# Altium footprint library 单片机.PCBLIB: 4 footprints
Each footprint in its own frame and in the unit in brackets; x right, y up, seen from the top. Pads: shape width x height; smd on the part's side, far side on the other; paste and mask are expansions set on the pad; w line width, h text height; cw(c..) or ccw(c..) is an arc to the next point about the centre after c.
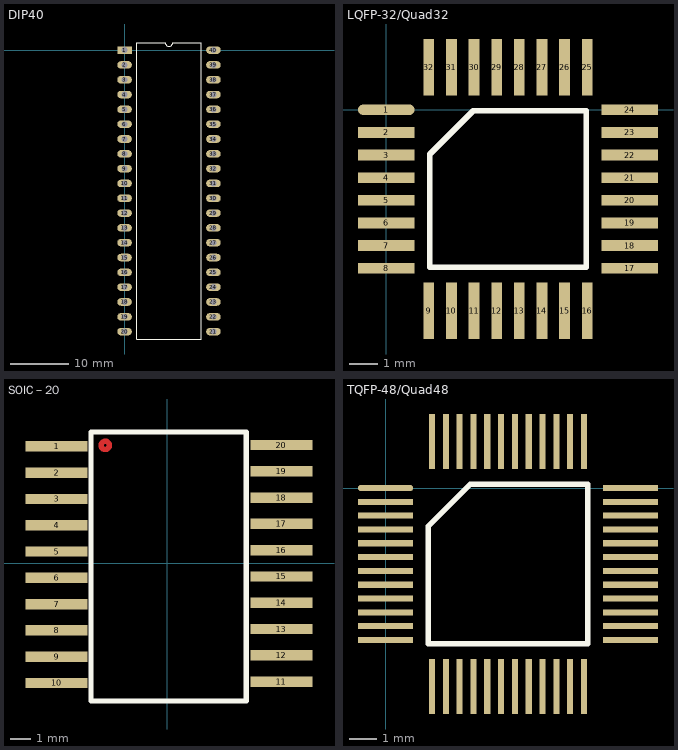
[diagram p0: the footprints below, top view; thin cyan lines are the x and y axes]

## DIP40 [mm]
pads (40):
  rect 2.5x1.3 hole 1: 1(0,0)
  oval 2.5x1.3 hole 1: 2(0,-2.54) 3(0,-5.08) 4(0,-7.62) 5(0,-10.16) 6(0,-12.7) 7(0,-15.24) 8(0,-17.78) 9(0,-20.32) 10(0,-22.86) 11(0,-25.4) 12(0,-27.94) 13(0,-30.48) 14(0,-33.02) 15(0,-35.56) 16(0,-38.1) 17(0,-40.64) 18(0,-43.18) 19(0,-45.72) 20(0,-48.26) 21(15.24,-48.26) 22(15.24,-45.72) 23(15.24,-43.18) 24(15.24,-40.64) 25(15.24,-38.1) 26(15.24,-35.56) 27(15.24,-33.02) 28(15.24,-30.48) 29(15.24,-27.94) 30(15.24,-25.4) 31(15.24,-22.86) 32(15.24,-20.32) 33(15.24,-17.78) 34(15.24,-15.24) 35(15.24,-12.7) 36(15.24,-10.16) 37(15.24,-7.62) 38(15.24,-5.08) 39(15.24,-2.54) 40(15.24,0)
Top Overlay:
  lines w0.2: 2.085,-49.53 13.155,-49.53 13.155,1.27 8.255,1.27 cw(c7.62,1.27) 6.985,1.27 2.085,1.27 2.085,-49.53

## LQFP-32/Quad32 [mm]
pads (32):
  oval 2x0.38 smd: 1(0,0)
  rect 2x0.38 smd: 2(0,-0.8) 3(0,-1.6) 4(0,-2.4) 5(0,-3.2) 6(0,-4) 7(0,-4.8) 8(0,-5.6) 17(8.6,-5.6) 18(8.6,-4.8) 19(8.6,-4) 20(8.6,-3.2) 21(8.6,-2.4) 22(8.6,-1.6) 23(8.6,-0.8) 24(8.6,0)
  rect 0.38x2 smd: 9(1.5,-7.1) 10(2.3,-7.1) 11(3.1,-7.1) 12(3.9,-7.1) 13(4.7,-7.1) 14(5.5,-7.1) 15(6.3,-7.1) 16(7.1,-7.1) 25(7.1,1.5) 26(6.3,1.5) 27(5.5,1.5) 28(4.7,1.5) 29(3.9,1.5) 30(3.1,1.5) 31(2.3,1.5) 32(1.5,1.5)
Top Overlay:
  lines w0.2: 1.535,-5.565 7.065,-5.565 7.065,-0.035 3.07,-0.035 1.535,-1.57 1.535,-5.565

## SOIC－20 [mm]
pads (20):
  rect 3x0.5 smd: 1(-5.35,5.65) 2(-5.35,4.38) 3(-5.35,3.11) 4(-5.35,1.84) 5(-5.35,0.57) 6(-5.35,-0.7) 7(-5.35,-1.97) 8(-5.35,-3.24) 9(-5.35,-4.51) 10(-5.35,-5.78) 11(5.51,-5.715) 12(5.51,-4.445) 13(5.51,-3.175) 14(5.51,-1.905) 15(5.51,-0.635) 16(5.51,0.635) 17(5.51,1.905) 18(5.51,3.175) 19(5.51,4.445) 20(5.51,5.715)
Top Layer:
  circle w0.254: c-3,5.7 r0.2
Top Overlay:
  lines w0.254: -3.69,-6.65 3.81,-6.65 3.81,6.35 -3.69,6.35 -3.69,-6.65

## TQFP-48/Quad48 [mm]
pads (48):
  oval 2x0.22 smd: 1(0,0)
  rect 2x0.22 smd: 2(0,-0.5) 3(0,-1) 4(0,-1.5) 5(0,-2) 6(0,-2.5) 7(0,-3) 8(0,-3.5) 9(0,-4) 10(0,-4.5) 11(0,-5) 12(0,-5.5) 25(8.86,-5.5) 26(8.86,-5) 27(8.86,-4.5) 28(8.86,-4) 29(8.86,-3.5) 30(8.86,-3) 31(8.86,-2.5) 32(8.86,-2) 33(8.86,-1.5) 34(8.86,-1) 35(8.86,-0.5) 36(8.86,0)
  rect 0.22x2 smd: 13(1.68,-7.18) 14(2.18,-7.18) 15(2.68,-7.18) 16(3.18,-7.18) 17(3.68,-7.18) 18(4.18,-7.18) 19(4.68,-7.18) 20(5.18,-7.18) 21(5.68,-7.18) 22(6.18,-7.18) 23(6.68,-7.18) 24(7.18,-7.18) 37(7.18,1.68) 38(6.68,1.68) 39(6.18,1.68) 40(5.68,1.68) 41(5.18,1.68) 42(4.68,1.68) 43(4.18,1.68) 44(3.68,1.68) 45(3.18,1.68) 46(2.68,1.68) 47(2.18,1.68) 48(1.68,1.68)
Top Overlay:
  lines w0.2: 1.535,-5.645 1.535,-1.39 3.07,0.145 7.325,0.145 7.325,-5.645 1.535,-5.645